# EAGLE library part LT1765 (library harp expander servo driver v1.0)
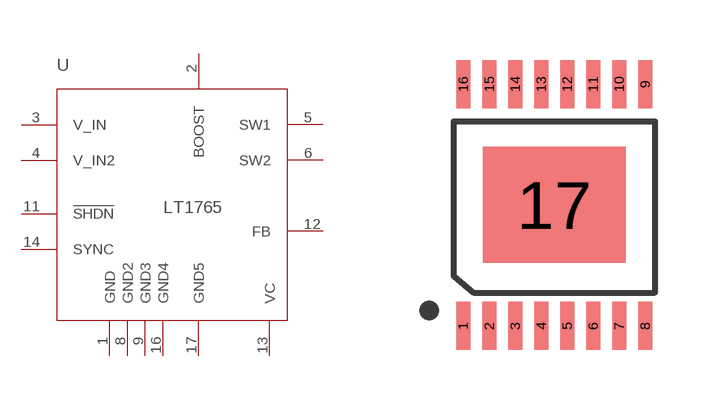
[diagram p0: symbol with the pads of TSSOP16; footprint TSSOP16]

Designator prefix U

## LT1765  [TSSOP16]
1  GND  pas
2  BOOST  pas
3  V_IN  pas
4  V_IN2  pas
5  SW1  pas
6  SW2  pas
7  NC7  nc
8  GND2  pas
9  GND3  pas
10  NC10  nc
11  !SHDN  pas
12  FB  pas
13  VC  pas
14  SYNC  pas
15  NC15  nc
16  GND4  pas
17  GND5  pas

## Footprint TSSOP16 (pad centres in mm)
Thin Shrink Small Outline Plastic 16 Exposed Pad Variation
smd 0.35 x 1.2: 1 -2.159,-2.897; 2 -1.504,-2.897; 3 -0.854,-2.897; 4 -0.204,-2.897; 5 0.446,-2.897; 6 1.096,-2.897; 7 1.746,-2.897; 8 2.396,-2.897; 9 2.396,3.148; 10 1.746,3.148; 11 1.096,3.148; 12 0.446,3.148; 13 -0.204,3.148; 14 -0.854,3.148; 15 -1.504,3.148; 16 -2.154,3.148
smd 3.58 x 2.9: 17 0.121,0.126